# EAGLE library part 629105150521 (library jason_eagle6)
WR-COM_USB_Micro Type B_Horizontal_SMT ; Micro Type B Horizontal SMT - 3A current at Pin1 & Pin 5 - with Pegs and THT shielding Pins - T&R Packaging Code : Con_I-O_COM_USB_2.0_B_629105150521_629105150521 <http://katalog.we-online.de/media/images/eican/Con_I-O_COM_USB_2.0_B_629105150521_pf2.jpg> Details see: http://katalog.we-online.de/em/datasheet/629105150521.pdf Created 12/08/2014, Dan Xu 2014 (C) Wurth Elektronik
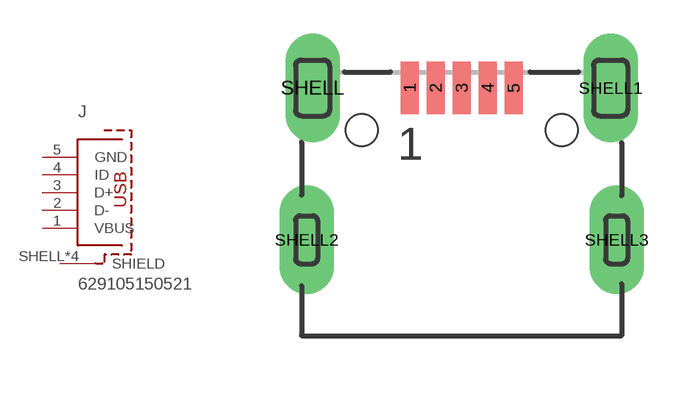
[diagram p31: symbol with the pads of 629105150521; footprint 629105150521]

Designator prefix J

## 629105150521  [629105150521]
1  VBUS  pas
2  D-  pas
3  D+  pas
4  ID  pas
5  GND  pas
SHELL  SHIELD  pas
SHELL1  SHIELD  pas
SHELL2  SHIELD  pas
SHELL3  SHIELD  pas

## Footprint 629105150521 (pad centres in mm)
629105150521 WR-COM_USB_Micro Type B_Horizontal_SMT Micro Type B Horizontal SMT - 3A current at Pin1 & Pin 5 - with Pegs and THT shielding Pins - T&R Packaging
smd 0.45 x 1.3: 1 -1.3,1.05; 2 -0.65,1.05; 3 0,1.05; 4 0.65,1.05; 5 1.3,1.05
drill 0.85 pad 1.2 long: SHELL -3.725,1.05; SHELL1 3.725,1.05; SHELL2 -3.875,-2.75; SHELL3 3.875,-2.75
hole 0.8 at -2.5,0
hole 0.8 at 2.5,0